# Altium integrated library LM7805CT_NOPB.IntLib: 1 symbol
Pins are listed as number, name and electrical type; pins without a type are passive.

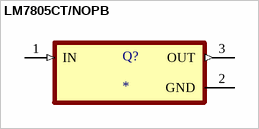
[diagram p0: symbol LM7805CT/NOPB]

## LM7805CT/NOPB
designator Q?
MP: LM7805CT/NOPB; Price: None; Value: *; Availability: Unavailable; Package: None
footprint TO254P1054X470X1955-3
pins: 1 IN (in), 2 GND (power), 3 OUT (out)